# Altium footprint library AmpClick.PcbLib: 19 footprints (part 1 of 2)
Each footprint in its own frame and in the unit in brackets; x right, y up, seen from the top. Pads: shape width x height; smd on the part's side, far side on the other; paste and mask are expansions set on the pad; w line width, h text height; cw(c..) or ccw(c..) is an arc to the next point about the centre after c.
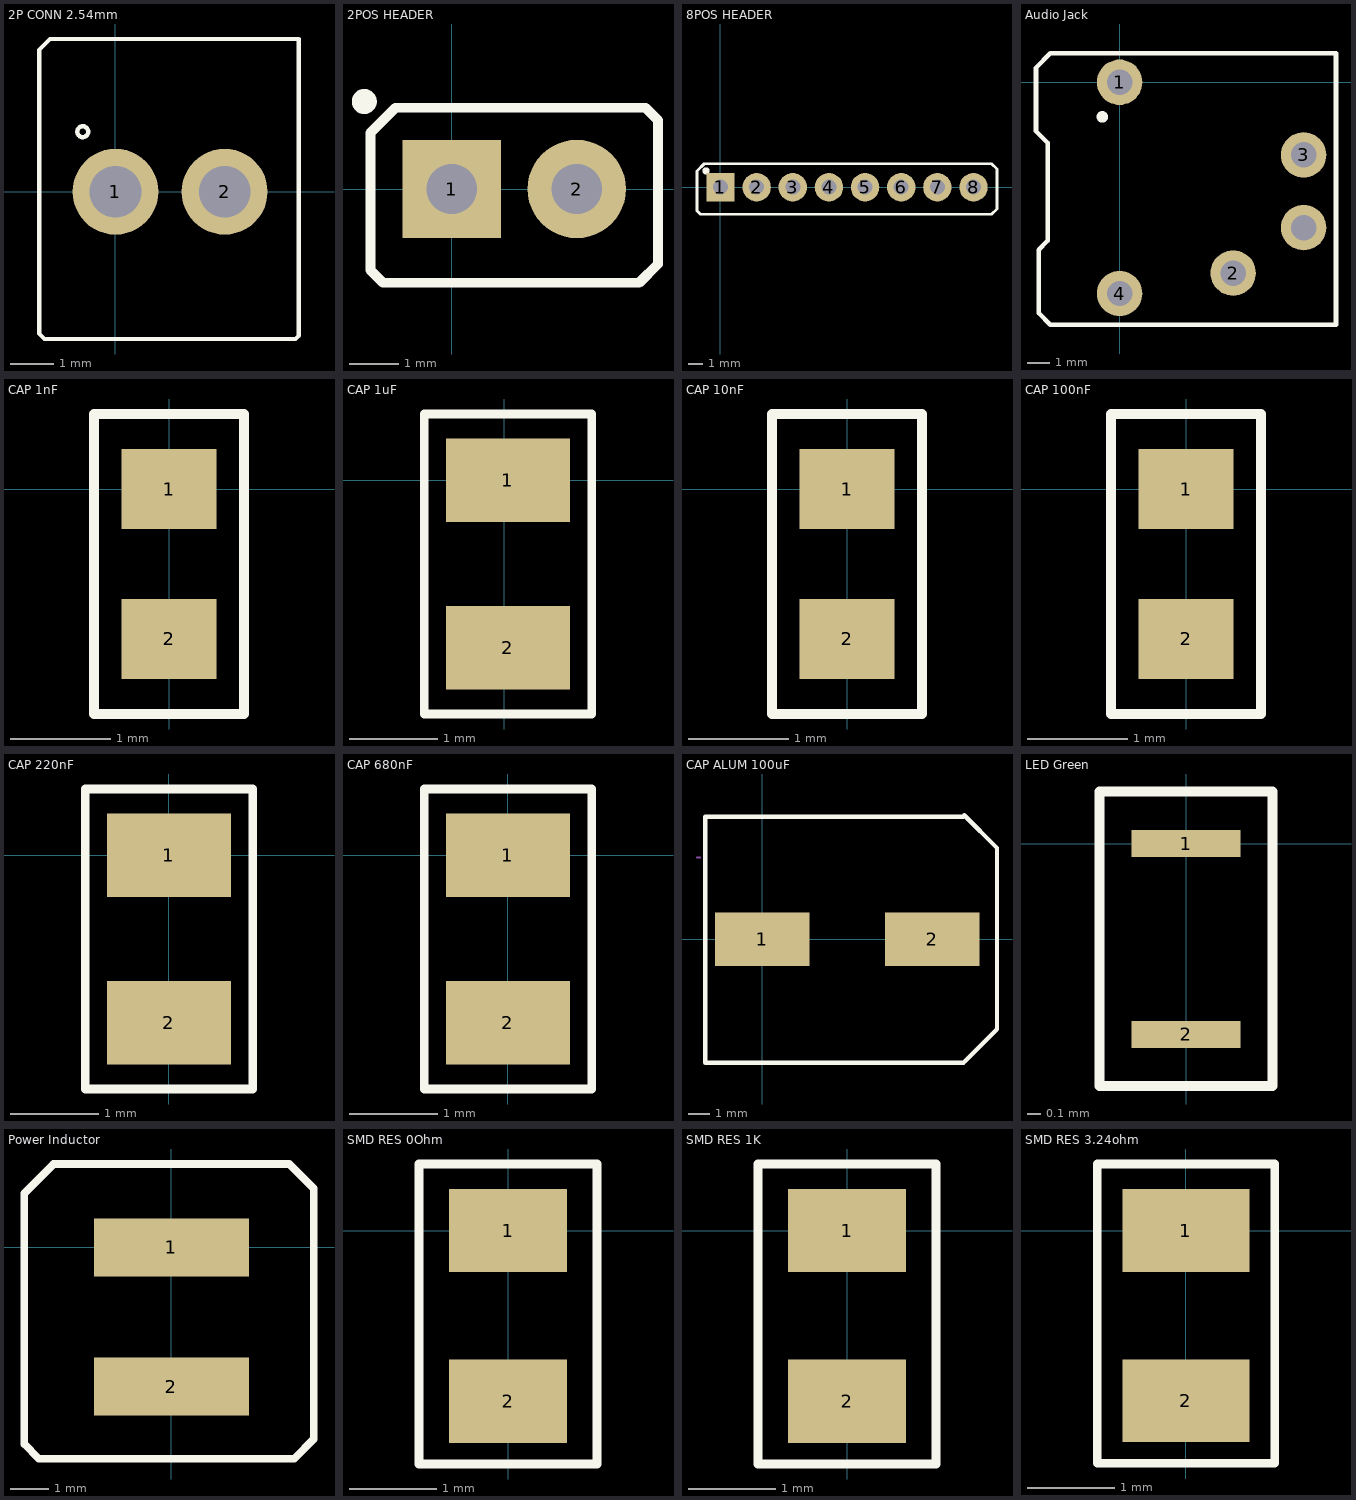
[diagram p0: the footprints below, top view; thin cyan lines are the x and y axes]

## 2P CONN 2.54mm [mm]
pads (2):
  round 2 hole 1.2 mask+0.05: 1(0,0) 2(2.54,0)
Top Overlay:
  circle w0.1: c-0.762,1.397 r0.127
  lines w0.1: -1.778,-3.302 -1.778,3.302 -1.524,3.556 -1.27,3.556 4.27,3.556 4.27,-3 4.27,-3.35 4.191,-3.429 -1.651,-3.429 -1.778,-3.302
3D body "12h8386_282834-2.stp": height 10.5, standoff -2.9, extent -1.5,-3.25 4.04,3.25

## 2POS HEADER [mm]
pads (2):
  rect 2x2 hole 1.02: 1(0,0)
  round 2 hole 1.02: 2(2.54,0)
Top Overlay:
  circle w0.254: c-1.778,1.778 r0.127
  lines w0.2: -1.651,-1.651 -1.397,-1.905 3.81,-1.905 4.191,-1.524 4.191,1.397 3.937,1.651 -1.143,1.651 -1.651,1.143 -1.651,-1.651
3D body "User Library-zl201-2_p2-54_l5-08_w2-54_h8-89.step": height 9.39, standoff -2.55, extent -1.302,-1.318 3.778,1.222

## 8POS HEADER [mm]
pads (8):
  rect 2x2 hole 1.05: 1(0,0)
  round 2 hole 1.05: 2(2.54,0) 3(5.08,0) 4(7.62,0) 5(10.16,0) 6(12.7,0) 7(15.24,0) 8(17.78,0)
Top Overlay:
  circle w0.254: c-1.016,1.143 r0.127
  lines w0.2: -1.651,-1.651 -1.397,-1.905 19.05,-1.905 19.431,-1.524 19.431,1.27 19.05,1.651 -1.143,1.651 -1.651,1.143 -1.651,-1.651
3D body "71071832.stp": height 9.27, standoff -2.27, extent -1.27,-1.27 19.05,1.27

## Audio Jack [mm]
pads (5):
  round 2 hole 1.12: 1(0,0) 2(5,-8.4) 3(8.1,-3.2) 4(0,-9.3) ""(8.1,-6.4)
Top Overlay:
  circle w0.254: c-0.762,-1.524 r0.127
  lines w0.2: -3.683,-2.159 -3.175,-2.667 -3.175,-6.985 -3.556,-7.366 -3.556,-10.16 -3.048,-10.668 -0.889,-10.668 9.525,-10.668 9.525,1.27 -1.016,1.27 -3.048,1.27 -3.683,0.635 -3.683,-2.159
3D body "CUI_DEVICES_SJ-43514.step": height 6, standoff -1.25, extent -5.364,-10.053 8.636,0.147

## CAP 1nF [mm]
pads (2):
  rect 0.95x0.8 smd mask+0.05: 1(0,0) 2(0,-1.5)
Top Overlay:
  lines w0.1: -0.75,-2.25 -0.75,0.75 0.75,0.75 0.75,-2.25 -0.75,-2.25
3D body: height 0.8, standoff 0, extent -0.45,-0.2 0.45,0.1
3D body: height 0.8, standoff 0, extent -0.45,-1.6 0.45,-1.3
3D body: height 0.8, standoff 0, extent -0.45,-1.3 0.45,-0.2

## CAP 1uF [mm]
pads (2):
  rect 1.4x0.95 smd mask+0.05: 1(0.041,0.003) 2(0.041,-1.897)
Top Overlay:
  lines w0.1: -0.909,-2.647 -0.909,0.753 0.991,0.753 0.991,-2.647 -0.909,-2.647
3D body: height 1.25, standoff 0, extent -0.634,-1.547 0.716,-0.347
3D body: height 1.25, standoff 0, extent -0.634,-0.347 0.716,0.103
3D body: height 1.25, standoff 0, extent -0.634,-1.997 0.716,-1.547

## CAP 10nF [mm]
height 0.8
pads (2):
  rect 0.95x0.8 smd mask+0.05: 1(0,0) 2(0,-1.5)
Top Overlay:
  lines w0.1: -0.75,-2.25 -0.75,0.75 0.75,0.75 0.75,-2.25 -0.75,-2.25
3D body: height 0.8, standoff 0, extent -0.45,-1.3 0.45,-0.2
3D body: height 0.8, standoff 0, extent -0.45,-1.6 0.45,-1.3
3D body: height 0.8, standoff 0, extent -0.45,-0.2 0.45,0.1

## CAP 100nF [mm]
pads (2):
  rect 0.95x0.8 smd mask+0.05: 1(0,0) 2(0,-1.5)
Top Overlay:
  lines w0.1: -0.75,-2.25 0.75,-2.25 0.75,0.75 -0.75,0.75 -0.75,-2.25
3D body: height 0.8, standoff 0, extent -0.45,-1.3 0.45,-0.2
3D body: height 0.8, standoff 0, extent -0.45,-1.6 0.45,-1.3
3D body: height 0.8, standoff 0, extent -0.45,-0.2 0.45,0.1

## CAP 220nF [mm]
pads (2):
  rect 1.4x0.95 smd mask+0.05: 1(0,0) 2(0,-1.9)
Top Overlay:
  lines w0.1: -0.95,-2.65 0.95,-2.65 0.95,0.75 -0.95,0.75 -0.95,-2.65
3D body: height 1.25, standoff 0, extent -0.675,-2 0.675,-1.55
3D body: height 1.25, standoff 0, extent -0.675,-0.35 0.675,0.1
3D body: height 1.25, standoff 0, extent -0.675,-1.55 0.675,-0.35

## CAP 680nF [mm]
pads (2):
  rect 1.4x0.95 smd mask+0.05: 1(0,0) 2(0,-1.9)
Top Overlay:
  lines w0.1: -0.95,-2.65 -0.95,0.75 0.95,0.75 0.95,-2.65 -0.95,-2.65
3D body: height 1.25, standoff 0, extent -0.675,-1.55 0.675,-0.35
3D body: height 1.25, standoff 0, extent -0.675,-2 0.675,-1.55
3D body: height 1.25, standoff 0, extent -0.675,-0.35 0.675,0.1

## CAP ALUM 100uF [mm]
pads (2):
  rect 4.4x2.5 smd: 1(0,0) 2(7.9,0)
Top Overlay:
  lines w0.2: 9.335,5.715 -2.667,5.715 -2.667,-4.064 -2.667,-5.747 9.366,-5.747 ; 9.398,-5.715 10.922,-4.191 10.922,-1.508 10.922,1.572 10.922,4.255 9.398,5.779
Mechanical 3:
  lines w0.1: -3.048,3.81 -2.921,3.81
3D body "User Library-CC1010.step": height 10.41, standoff 0, extent -1.563,-5.193 9.437,5.207

## LED Green [mm]
pads (2):
  rect 0.8x0.2 smd mask+0.05: 1(0,0) 2(0,-1.4)
Top Overlay:
  lines w0.075: -0.635,-1.778 -0.635,0.381 0.635,0.381 0.635,-1.778 -0.635,-1.778
3D body "sml-310mtt86.stp": height 0.8, standoff 0, extent -0.398,-1.495 0.402,0.105

## Power Inductor [mm]
pads (2):
  rect 4x1.5 smd mask+0.05: 1(0,0) 2(0,-3.6)
Top Overlay:
  lines w0.2: -3.81,-5.08 -3.429,-5.461 3.175,-5.461 3.683,-4.953 3.683,1.524 3.048,2.159 -3.048,2.159 -3.81,1.397 -3.81,-5.08
3D body "srr0604-100ml.stp": height 4.8, standoff 0, extent -3.325,-5.028 3.175,1.472

## SMD RES 0Ohm [mm]
pads (2):
  rect 1.35x0.95 smd mask+0.05: 1(0,0) 2(0,-1.95)
Top Overlay:
  lines w0.1: -1.016,-2.667 -1.016,0.762 1.016,0.762 1.016,-0.095 1.016,-0.524 1.016,-1.381 1.016,-1.81 1.016,-2.667 -1.016,-2.667
3D body "User Library-Res_Vishay_CRCW0805_2012.step": height 0.45, standoff 0, extent -0.625,-2.016 0.625,-0.016

## SMD RES 1K [mm]
pads (2):
  rect 1.35x0.95 smd mask+0.05: 1(0,0) 2(0,-1.95)
Top Overlay:
  lines w0.1: -1.016,-2.667 -0.318,-2.667 0.318,-2.667 1.016,-2.667 1.016,-1.81 1.016,-1.381 1.016,-0.524 1.016,-0.095 1.016,0.762 -1.016,0.762 -1.016,-2.667
3D body "User Library-Res_Vishay_CRCW0805_2012.step": height 0.45, standoff 0, extent -0.625,-2.016 0.625,-0.016

## SMD RES 3.24ohm [mm]
pads (2):
  rect 1.45x0.95 smd mask+0.05: 1(0,0) 2(0,-1.95)
Top Overlay:
  lines w0.1: -1.016,-2.667 -0.318,-2.667 0.318,-2.667 1.016,-2.667 1.016,0.762 -1.016,0.762 -1.016,-2.667
3D body "User Library-Res_Vishay_CRCW0805_2012.step": height 0.45, standoff 0, extent -0.625,-2.016 0.625,-0.016